# Altium footprint library 249КП1.PcbLib: 1 footprints
Each footprint in its own frame and in the unit in brackets; x right, y up, seen from the top. Pads: shape width x height; smd on the part's side, far side on the other; paste and mask are expansions set on the pad; w line width, h text height; cw(c..) or ccw(c..) is an arc to the next point about the centre after c.
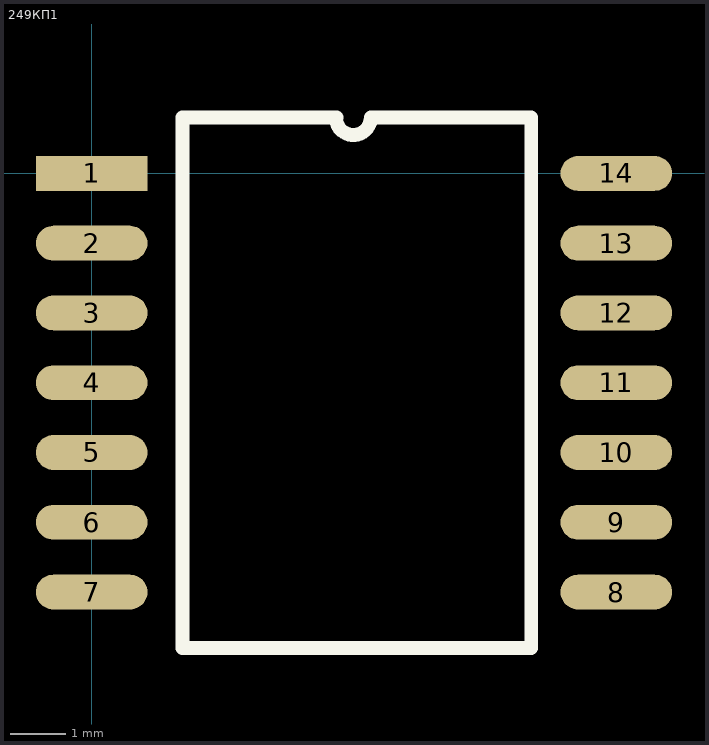
[diagram p0: the footprint, top view; thin cyan lines are the x and y axes]

## 249КП1 [mil]
pads (14):
  rect 80x25 smd: 1(0,0)
  oval 80x25 smd: 2(0,-50) 3(0,-100) 4(0,-150) 5(0,-200) 6(0,-250) 7(0,-300) 8(376,-300) 9(376,-250) 10(376,-200) 11(376,-150) 12(376,-100) 13(376,-50) 14(376,0)
Top Overlay:
  lines w10: 175,40 ccw(c187.5,40) 200,40 ; 175.5,40 65,40 65,-340 315,-340 315,40 200.5,40
3D body: height 86.6, standoff 0, extent 62.5,-340 317.5,40